# EAGLE library part TUSB4041I_TUSB4041I (library mainboard)
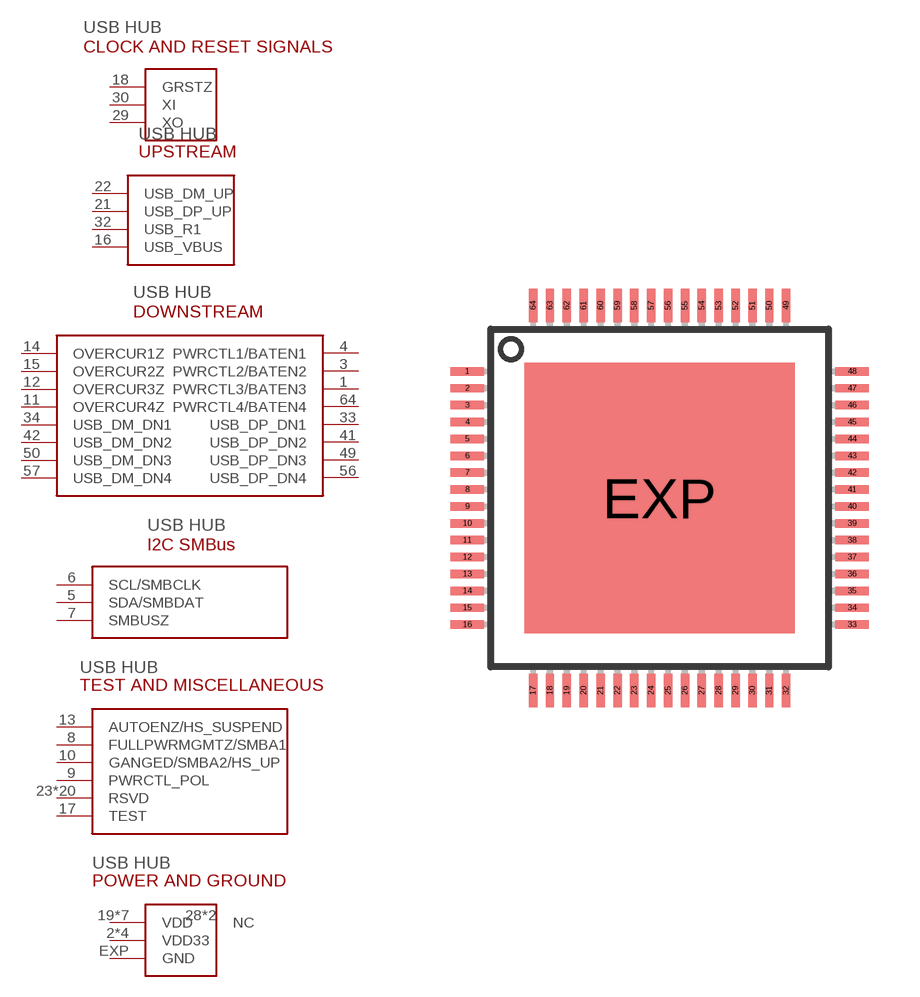
[diagram p6: symbol with the pads of TUSB4041I_HTQFP-64-EXP; footprint TUSB4041I_HTQFP-64-EXP]

Designator prefix IC; gates G$1=TUSB4041I_CLOCK/RESET G$2=TUSB4041I_USB-UBSTREAM G$3=TUSB4041I_USB-DOWNSTREAM G$4=TUSB4041I_I2C/SMBUS G$5=TUSB4041I_TEST/MISCELLANEOUS G$6=TUSB4041I_POWER/GROUND

## TUSB4041I_TUSB4041I  [TUSB4041I_HTQFP-64-EXP]
1  G$3:PWRCTL3/BATEN3
2  G$6:VDD33
3  G$3:PWRCTL2/BATEN2
4  G$3:PWRCTL1/BATEN1
5  G$4:SDA/SMBDAT
6  G$4:SCL/SMBCLK
7  G$4:SMBUSZ
8  G$5:FULLPWRMGMTZ/SMBA1
9  G$5:PWRCTL_POL
10  G$5:GANGED/SMBA2/HS_UP
11  G$3:OVERCUR4Z
12  G$3:OVERCUR3Z
13  G$5:AUTOENZ/HS_SUSPEND
14  G$3:OVERCUR1Z
15  G$3:OVERCUR2Z
16  G$2:USB_VBUS
17  G$5:TEST
18  G$1:GRSTZ
19  G$6:VDD
20  G$6:VDD33
21  G$2:USB_DP_UP
22  G$2:USB_DM_UP
23  G$5:RSVD
24  G$5:RSVD
25  G$6:VDD
26  G$5:RSVD
27  G$5:RSVD
28  G$6:NC  nc
29  G$1:XO
30  G$1:XI
31  G$6:VDD33
32  G$2:USB_R1
33  G$3:USB_DP_DN1
34  G$3:USB_DM_DN1
35  G$5:RSVD
36  G$5:RSVD
37  G$6:VDD
38  G$5:RSVD
39  G$5:RSVD
40  G$6:NC  nc
41  G$3:USB_DP_DN2
42  G$3:USB_DM_DN2
43  G$5:RSVD
44  G$5:RSVD
45  G$6:VDD
46  G$5:RSVD
47  G$5:RSVD
48  G$6:VDD33
49  G$3:USB_DP_DN3
50  G$3:USB_DM_DN3
51  G$5:RSVD
52  G$5:RSVD
53  G$6:VDD
54  G$5:RSVD
55  G$5:RSVD
56  G$3:USB_DP_DN4
57  G$3:USB_DM_DN4
58  G$5:RSVD
59  G$5:RSVD
60  G$6:VDD
61  G$5:RSVD
62  G$5:RSVD
63  G$6:VDD
64  G$3:PWRCTL4/BATEN4
EXP  G$6:GND

## Footprint TUSB4041I_HTQFP-64-EXP (pad centres in mm)
TQFP 64 PowerPAD Package Source: www.ti.com .. slma002.pdf
smd 1 x 0.25: 1 -5.7,3.75; 2 -5.7,3.25; 3 -5.7,2.75; 4 -5.7,2.25; 5 -5.7,1.75; 6 -5.7,1.25; 7 -5.7,0.75; 8 -5.7,0.25; 9 -5.7,-0.25; 10 -5.7,-0.75; 11 -5.7,-1.25; 12 -5.7,-1.75; 13 -5.7,-2.25; 14 -5.7,-2.75; 15 -5.7,-3.25; 16 -5.7,-3.75; 33 5.7,-3.75; 34 5.7,-3.25; 35 5.7,-2.75; 36 5.7,-2.25; 37 5.7,-1.75; 38 5.7,-1.25; 39 5.7,-0.75; 40 5.7,-0.25; 41 5.7,0.25; 42 5.7,0.75; 43 5.7,1.25; 44 5.7,1.75; 45 5.7,2.25; 46 5.7,2.75; 47 5.7,3.25; 48 5.7,3.75
smd 0.25 x 1: 17 -3.75,-5.7; 18 -3.25,-5.7; 19 -2.75,-5.7; 20 -2.25,-5.7; 21 -1.75,-5.7; 22 -1.25,-5.7; 23 -0.75,-5.7; 24 -0.25,-5.7; 25 0.25,-5.7; 26 0.75,-5.7; 27 1.25,-5.7; 28 1.75,-5.7; 29 2.25,-5.7; 30 2.75,-5.7; 31 3.25,-5.7; 32 3.75,-5.7; 49 3.75,5.7; 50 3.25,5.7; 51 2.75,5.7; 52 2.25,5.7; 53 1.75,5.7; 54 1.25,5.7; 55 0.75,5.7; 56 0.25,5.7; 57 -0.25,5.7; 58 -0.75,5.7; 59 -1.25,5.7; 60 -1.75,5.7; 61 -2.25,5.7; 62 -2.75,5.7; 63 -3.25,5.7; 64 -3.75,5.7
smd 8 x 8: EXP 0,0